# Altium footprint library Multi_Effect_Interface_lib.PcbLib: 29 footprints (part 1 of 2)
Each footprint in its own frame and in the unit in brackets; x right, y up, seen from the top. Pads: shape width x height; smd on the part's side, far side on the other; paste and mask are expansions set on the pad; w line width, h text height; cw(c..) or ccw(c..) is an arc to the next point about the centre after c.
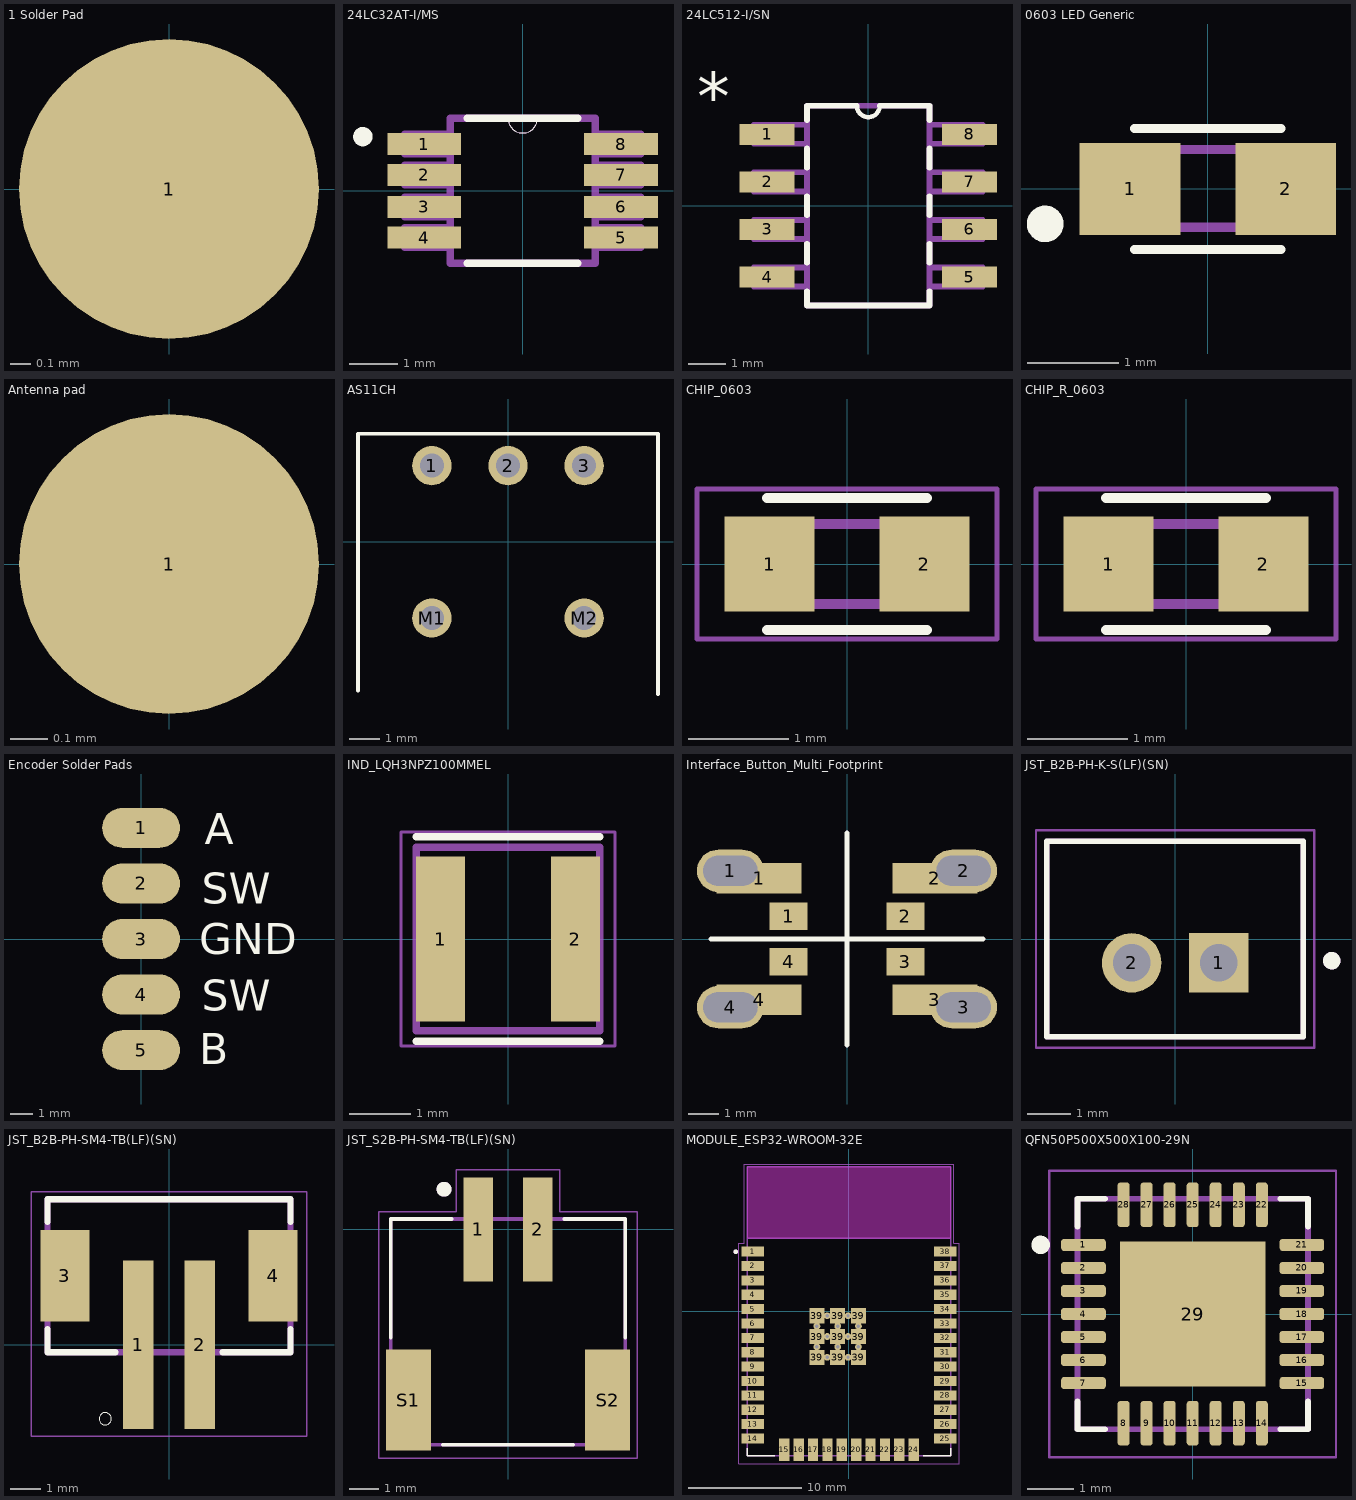
[diagram p0: the footprints below, top view; thin cyan lines are the x and y axes]

## 1 Solder Pad [mm]
pads (1):
  round 1.5 smd: 1(0,0)

## 24LC32AT-I/MS [mil]
pads (8):
  rect 60x18 smd: 1(-80,38) 2(-80,13) 3(-80,-13) 4(-80,-38) 5(80,-38) 6(80,-13) 7(80,13) 8(80,38)
Top Overlay:
  circle w7.87: c-129.92,44.06 r3.94
  lines w0: -12,59 ccw(c0,59) 12,59
  lines w6: -45,-59 45,-59 ; -45,59 -12,59 12,59 45,59
Mechanical 13:
  lines w0: -12,59 ccw(c0,59) 12,59
  lines w6: -96,-46 -96,-30 -59,-30 -59,-46 -96,-46 ; -96,-21 -96,-5 -59,-5 -59,-21 -96,-21 ; -96,5 -96,21 -59,21 -59,5 -96,5 ; -96,30 -96,46 -59,46 -59,30 -96,30 ; -59,-59 59,-59 59,59 12,59 -12,59 -59,59 -59,-59 ; 59,-46 59,-30 96,-30 96,-46 59,-46 ; 59,-21 59,-5 96,-5 96,-21 59,-21 ; 59,5 59,21 96,21 96,5 59,5 ; 59,30 59,46 96,46 96,30 59,30
3D body "msop-8.SLDPRT": height 45.28, standoff 0, extent -96.46,-59.06 96.46,59.06

## 24LC512-I/SN [mil]
pads (8):
  rect 58x22 smd: 1(-106.3,75) 2(-106.3,25) 3(-106.3,-25) 4(-106.3,-75) 5(106.3,-75) 6(106.3,-25) 7(106.3,25) 8(106.3,75)
Top Overlay:
  lines w4.72: -12,105 ccw(c0,105) 12,105
  lines w6: -64.31,-90 -64.31,-105 64.31,-105 64.31,-90 ; -64.31,-60 -64.31,-40 ; -64.31,-10 -64.31,10 ; -64.31,40 -64.31,60 ; -64.31,90 -64.31,105 -12,105 ; 12,105 64.31,105 64.31,90 ; 64.31,-60 64.31,-40 ; 64.31,-10 64.31,10 ; 64.31,40 64.31,60
  text "*" at -180,90 h50.08
Mechanical 13:
  lines w0: -12,105 ccw(c0,105) 12,105
  lines w5.98: -64.31,-105 64.31,-105 ; -64.31,105 -12,105 ; 12,105 64.31,105
  lines w6: -64.31,-105 -64.31,105 ; -12,105 12,105 ; 64.31,-105 64.31,105 ; -120.31,-85 -64.31,-85 -64.31,-65 -120.31,-65 -120.31,-85 ; -120.31,-35 -64.31,-35 -64.31,-15 -120.31,-15 -120.31,-35 ; -120.31,15 -64.31,15 -64.31,35 -120.31,35 -120.31,15 ; -120.31,65 -64.31,65 -64.31,85 -120.31,85 -120.31,65 ; 64.31,-85 64.31,-65 120.31,-65 120.31,-85 64.31,-85 ; 64.31,-35 64.31,-15 120.31,-15 120.31,-35 64.31,-35 ; 64.31,15 64.31,35 120.31,35 120.31,15 64.31,15 ; 64.31,65 64.31,85 120.31,85 120.31,65 64.31,65
  text "*" at -180,90 h50.03
3D body "SN.STEP": height 68.9, standoff 0, extent -118.11,-96.46 118.11,96.46

## 0603 LED Generic [mm]
pads (2):
  rect 1.1x1 smd: 1(-0.85,0) 2(0.85,0)
Top Overlay:
  circle w0.2: c-1.778,-0.381 r0.1
  lines w0.1: -0.8,-0.66 0.8,-0.66 ; -0.8,0.66 0.8,0.66
Mechanical 13:
  region: 0.83,-0.471 0.331,-0.471 0.331,0.48 0.83,0.48
  region: -0.338,-0.47 -0.838,-0.47 -0.838,0.48 -0.338,0.48
  lines w0.102: -0.356,-0.419 0.356,-0.419 ; -0.356,0.432 0.356,0.432
3D body "LED Green SMD 0603 Würth 150060BS55040.stp": height 0.4, standoff 0, extent -0.8,-0.4 0.8,0.4

## Antenna pad [mm]
pads (1):
  round 0.8 smd: 1(0,0)

## AS11CH [mm]
pads (5):
  round 1.308 hole 0.8: 1(-2.54,2.54) 2(0,2.54) 3(2.54,2.54) M1(-2.54,-2.54) M2(2.54,-2.54)
Top Overlay:
  lines w0.127: -5,-4.953 -5,3.603 5,3.603 5,-5.08
3D body "AS11CH--3DModel-STEP-56544.STEP": height 6.18, standoff -3.1, extent -4.9,-11.176 4.9,2.824

## CHIP_0603 [mm] "Chip Capacitor, 2-Leads, Body 1.60x0.80mm, IPC Medium Density"
height 0.8
pads (2):
  rect 0.9x0.95 smd: 1(-0.775,0) 2(0.775,0)
Top Overlay:
  lines w0.1: -0.8,-0.66 0.8,-0.66 ; -0.8,0.66 0.8,0.66
Mechanical 2:
  lines w0.05: -1.5,-0.75 1.5,-0.75 1.5,0.75 -1.5,0.75 -1.5,-0.75
  lines w0.1: -0.8,-0.4 0.8,-0.4 0.8,0.4 -0.8,0.4 -0.8,-0.4
3D body "CHIP_0603.step": height 0.65, standoff 0, extent -0.75,-0.4 0.75,0.4

## CHIP_R_0603 [mm] "Chip Resistor, 2-Leads, Body 1.60x0.80mm, IPC Medium Density"
height 0.8
pads (2):
  rect 0.9x0.95 smd: 1(-0.775,0) 2(0.775,0)
Top Overlay:
  lines w0.1: -0.8,-0.66 0.8,-0.66 ; -0.8,0.66 0.8,0.66
Mechanical 2:
  lines w0.05: -1.5,-0.75 1.5,-0.75 1.5,0.75 -1.5,0.75 -1.5,-0.75
  lines w0.1: -0.8,-0.4 0.8,-0.4 0.8,0.4 -0.8,0.4 -0.8,-0.4
3D body "R_0603.step": height 0.63, standoff 0, extent -0.75,-0.4 0.75,0.4

## Encoder Solder Pads [mm]
pads (5):
  oval 3.5x1.8 smd: 1(0,5) 2(0,2.5) 3(0,0) 4(0,-2.5) 5(0,-5)
Top Overlay:
  text "B" at 2.613,-5.642 h1.4
  text "SW" at 2.74,-3.229 h1.4
  text "GND" at 2.613,-0.689 h1.4
  text "SW" at 2.74,1.597 h1.4
  text "A" at 2.867,4.264 h1.4

## IND_LQH3NPZ100MMEL [mm]
pads (2):
  rect 0.8x2.7 smd: 1(-1.1,0) 2(1.1,0)
Top Overlay:
  lines w0.127: -1.5,-1.67 1.5,-1.67 ; -1.5,1.67 1.5,1.67
Mechanical 13:
  lines w0.127: -1.5,-1.5 1.5,-1.5 1.5,1.5 -1.5,1.5 -1.5,-1.5
Mechanical 15:
  lines w0.05: -1.75,-1.75 1.75,-1.75 1.75,1.75 -1.75,1.75 -1.75,-1.75
3D body "LQH3NPZ100MMEL.STEP": height 1.5, standoff 0, extent -1.5,-1.5 1.5,1.5

## Interface_Button_Multi_Footprint [mm]
pads (12):
  oval 2.2x1.4 hole 1 slot 1.8 at 0 deg: 1(-3.85,2.25) 2(3.85,2.25) 3(3.85,-2.25) 4(-3.85,-2.25)
  rect 2.8x1 smd: 1(-2.9,2) 2(2.9,2) 3(2.9,-2) 4(-2.9,-2)
  rect 1.25x0.9 smd: 1(-1.925,0.75) 2(1.925,0.75) 3(1.925,-0.75) 4(-1.925,-0.75)
Top Overlay:
  lines w0.15: -4.5,0 4.5,0 ; 0,-3.5 0,3.5
3D body "Soft-Tactile-Button-3101.step": height 5, standoff -3.5, extent -4.92,-3.9 4.92,3.9

## JST_B2B-PH-K-S(LF)(SN) [mm]
pads (2):
  rect 1.368x1.368 hole 0.86: 1(1,-0.55)
  round 1.368 hole 0.86: 2(-1,-0.55)
Top Overlay:
  circle w0.2: c3.6,-0.5 r0.1
  lines w0.127: -2.95,-2.25 -2.95,2.25 2.95,2.25 2.95,-2.25 -2.95,-2.25
Mechanical 13:
  circle w0.2: c3.6,-0.5 r0.1
  lines w0.127: -2.95,-2.25 2.95,-2.25 2.95,2.25 -2.95,2.25 -2.95,-2.25
Mechanical 15:
  lines w0.05: -3.2,-2.5 3.2,-2.5 3.2,2.5 -3.2,2.5 -3.2,-2.5
3D body "B2B-PH-K-S(LF)(SN)--3DModel-STEP-56544.STEP": height 6, standoff -3.4, extent -2.95,-2.25 2.95,2.25

## JST_B2B-PH-SM4-TB(LF)(SN) [mm]
pads (4):
  rect 1x5.5 smd: 1(-1,0) 2(1,0)
  rect 1.6x3 smd: 3(-3.4,2.25) 4(3.4,2.25)
Top Overlay:
  circle w0: c-2.083,-2.424 r0.2
  lines w0.2: -3.975,0.5 -3.975,-0.25 -1.75,-0.25 ; -3.975,4 -3.975,4.75 3.975,4.75 3.975,4 ; 1.75,-0.25 3.975,-0.25 3.975,0.5
Mechanical 13:
  lines w0.2: -3.975,-0.25 3.975,-0.25 3.975,4.75 -3.975,4.75 -3.975,-0.25
Mechanical 15:
  lines w0.05: -4.5,-3 4.5,-3 4.5,5 -4.5,5 -4.5,-3
3D body "B2B-PH-SM4-TB(LF)(SN)--3DModel-STEP-56544.STEP": height 6.6, standoff -0.15, extent -3.975,-2.25 3.975,4.75

## JST_S2B-PH-SM4-TB(LF)(SN) [mm]
pads (4):
  rect 1x3.5 smd: 1(-1,0) 2(1,0)
  rect 1.5x3.4 smd: S1(-3.35,-5.75) S2(3.35,-5.75)
Top Overlay:
  circle w0.3: c-2.15,1.35 r0.1
  lines w0.127: -3.95,-3.65 -3.95,0.35 -1.9,0.35 ; -2.2,-7.25 2.2,-7.25 ; 1.9,0.35 3.95,0.35 3.95,-3.65
Mechanical 13:
  circle w0.3: c-2.15,1.35 r0.1
  lines w0.127: -3.95,-7.25 -3.95,0.35 3.95,0.35 3.95,-7.25 -3.95,-7.25
Mechanical 15:
  lines w0.05: -4.35,-7.7 -4.35,0.6 -1.75,0.6 -1.75,2 1.75,2 1.75,0.6 4.35,0.6 4.35,-7.7 -4.35,-7.7
3D body "S2B-PH-SM4-TB(LF)(SN)--3DModel-STEP-56544.STEP": height 5.65, standoff 0.05, extent -3.95,-7.3 3.95,1.3

## MODULE_ESP32-WROOM-32E [mm]
pads (59):
  rect 2x0.9 smd: 1(-8.5,5.26) 2(-8.5,3.99) 3(-8.5,2.72) 4(-8.5,1.45) 5(-8.5,0.18) 6(-8.5,-1.09) 7(-8.5,-2.36) 8(-8.5,-3.63) 9(-8.5,-4.9) 10(-8.5,-6.17) 11(-8.5,-7.44) 12(-8.5,-8.71) 13(-8.5,-9.98) 14(-8.5,-11.25) 25(8.5,-11.25) 26(8.5,-9.98) 27(8.5,-8.71) 28(8.5,-7.44) 29(8.5,-6.17) 30(8.5,-4.9) 31(8.5,-3.63) 32(8.5,-2.36) 33(8.5,-1.09) 34(8.5,0.18) 35(8.5,1.45) 36(8.5,2.72) 37(8.5,3.99) 38(8.5,5.26)
  rect 0.9x2 smd: 15(-5.715,-12.25) 16(-4.445,-12.25) 17(-3.175,-12.25) 18(-1.905,-12.25) 19(-0.635,-12.25) 20(0.635,-12.25) 21(1.905,-12.25) 22(3.175,-12.25) 23(4.445,-12.25) 24(5.715,-12.25)
  rect 1.33x1.33 smd: 39(-2.835,-4.075) 39(-2.835,-2.24) 39(-2.835,-0.405) 39(-1,-4.075) 39(-1,-2.24) 39(-1,-0.405) 39(0.835,-4.075) 39(0.835,-2.24) 39(0.835,-0.405)
  round 0.6 hole 0.3: 39(-2.835,-3.157) 39(-2.835,-1.322) 39(-1.917,-4.075) 39(-1.917,-2.24) 39(-1.917,-0.405) 39(-1,-3.157) 39(-1,-1.322) 39(-0.082,-4.075) 39(-0.082,-2.24) 39(-0.082,-0.405) 39(0.835,-3.157) 39(0.835,-1.322)
Top Overlay:
  circle w0.2: c-10,5.25 r0.1
  lines w0.127: -9,-12.1 -9,-12.75 -6.55,-12.75 ; 6.55,-12.75 9,-12.75 9,-12.1
Keep-Out Layer:
  region: 9,6.45 -9,6.45 -9,12.75 9,12.75
  region: 9,6.45 -9,6.45 -9,12.75 9,12.75
Mechanical 13:
  circle w0.2: c-10,5.25 r0.1
  lines w0.127: -9,6.45 9,6.45 ; -9,6.45 -9,12.75 9,12.75 9,6.45 ; -9,6.45 -9,-12.75 9,-12.75 9,6.45
  text "ANTENNA" at -6,9 h1.78
Mechanical 15:
  lines w0.05: -9.75,-13.5 -9.75,6 -9.25,6 -9.25,13 9.25,13 9.25,6 9.75,6 9.75,-13.5 -9.75,-13.5
3D body "ESP32-WROOM-32--3DModel-STEP-56544.STEP": height 3.2, standoff 0, extent -9,-12.75 9,12.75

## QFN50P500X500X100-29N [mm]
pads (29):
  rrect50% 0.97x0.26 smd: 1(-2.37,1.5) 2(-2.37,1) 3(-2.37,0.5) 4(-2.37,0) 5(-2.37,-0.5) 6(-2.37,-1) 7(-2.37,-1.5) 15(2.37,-1.5) 16(2.37,-1) 17(2.37,-0.5) 18(2.37,0) 19(2.37,0.5) 20(2.37,1) 21(2.37,1.5)
  rrect50% 0.26x0.97 smd: 8(-1.5,-2.37) 9(-1,-2.37) 10(-0.5,-2.37) 11(0,-2.37) 12(0.5,-2.37) 13(1,-2.37) 14(1.5,-2.37) 22(1.5,2.37) 23(1,2.37) 24(0.5,2.37) 25(0,2.37) 26(-0.5,2.37) 27(-1,2.37) 28(-1.5,2.37)
  rect 3.15x3.15 smd paste-3: 29(0,0)
Top Overlay:
  circle w0.2: c-3.3,1.5 r0.1
  lines w0.127: -2.5,-1.9 -2.5,-2.5 -1.9,-2.5 ; -2.5,1.9 -2.5,2.5 -1.9,2.5 ; 1.9,-2.5 2.5,-2.5 2.5,-1.9 ; 1.9,2.5 2.5,2.5 2.5,1.9
Top Paste:
  region: 0.989,-0.991 -0.991,-0.991 -0.991,0.989 0.989,0.989
Mechanical 13:
  lines w0.127: -2.5,-2.5 2.5,-2.5 2.5,2.5 -2.5,2.5 -2.5,-2.5
Mechanical 15:
  lines w0.05: -3.11,-3.11 3.11,-3.11 3.11,3.11 -3.11,3.11 -3.11,-3.11
3D body "CP2102-GMR--3DModel-STEP-56544.STEP": height 1, standoff 0, extent -2.5,-2.5 2.5,2.5